# Altium schematic symbol library Resistor.SchLib: 285 symbols (part 1 of 3)
Pins are listed as number, name and electrical type; pins without a type are passive.

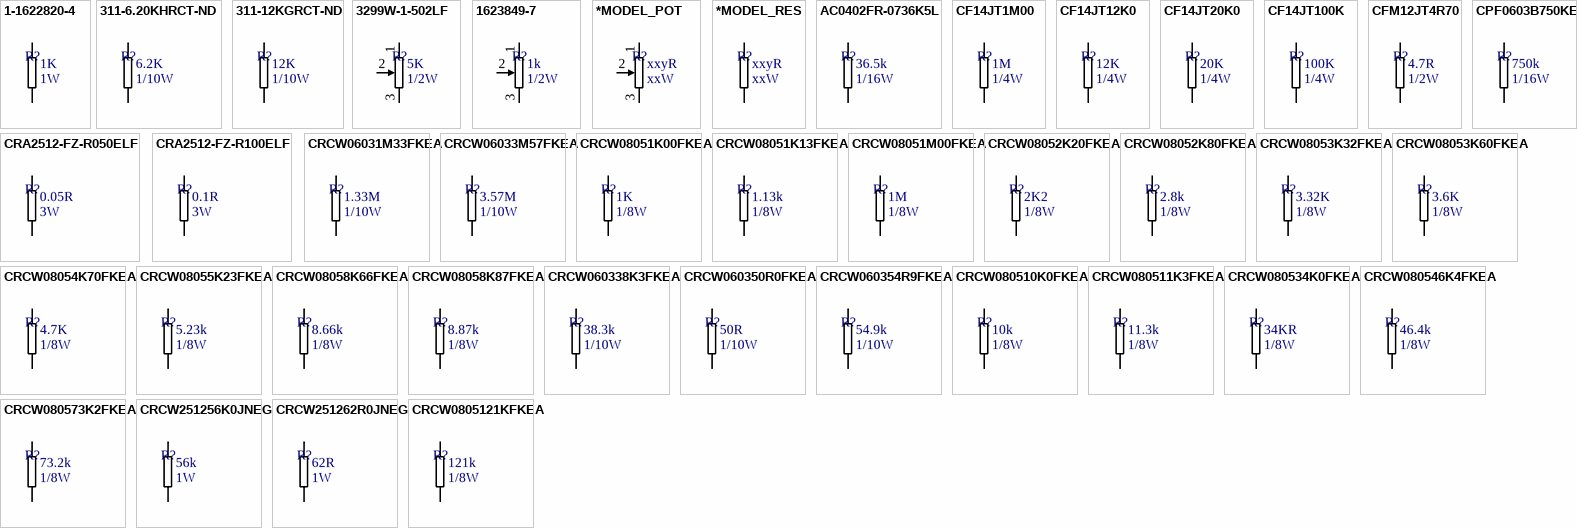
[diagram p0: symbols 1-1622820-4 to CRCW0805121KFKEA]

## 1-1622820-4
designator R?  value 1K  Power: 1W  (hidden comment: 1-1622820-4)
RES 1K OHM 1W 5% 2512 SMD; Manufacturer: Rohm Semiconductor; Mount Type: SMD; Tolerance: 5%; Supplier 1: Digi-Key; Supplier Part Number 1: A102507CT-ND
footprint R2512_MD
pins: 1, 2

## 311-6.20KHRCT-ND
designator R?  value 6.2K  Power: 1/10W  (hidden comment: 311-6.20KHRCT-ND)
RES SMD 6.2K OHM 1% 1/10W 0603; Manufacturer: Yageo; Mount Type: SMD; Tolerance: 1%; Supplier 1: Mouser; Supplier Part Number 1: 603-RC0603FR-076K2L; Supplier 2: Digi-Key; Supplier Part Number 2: 311-6.20KHRCT-ND
footprint R0603_HD (Chip Resistor, Body 1.6x0.8mm, IPC High Density)
pins: 1, 2

## 311-12KGRCT-ND
designator R?  value 12K  Power: 1/10W  (hidden comment: 311-12KGRCT-ND)
RES SMD 12K OHM 5% 1/10W 0603; Manufacturer: Yageo; Tolerance: 1%; Mount Type: SMD; Supplier 1: Farnell; Supplier Part Number 1: 1799387; Supplier 2: Digi-Key; Supplier 3: Newark; Supplier Part Number 2: 311-12KGRCT-ND; Supplier Part Number 3: 68R0149
footprint R0603_HD (Chip Resistor, Body 1.6x0.8mm, IPC High Density)
pins: 1, 2

## 3299W-1-502LF
designator R?  value 5K  Power: 1/2W  (hidden comment: 3299W-1-502LF)
TRIMMER 5K OHM 0.5W PTH; Manufacturer: Bourns Inc.; Tolerance: 10%; Mount Type: PTH; Supplier 1: Farnell; Supplier 2: Arrow; Supplier 3: Newark; Supplier 4: Allied; Supplier 5: Digi-Key; Supplier 6: Mouser; Supplier Part Number 1: 9353801; Supplier Part Number 2: 41630185S7049765N1506; Supplier Part Number 3: 32K7947; Supplier Part Number 4: 70153969; Supplier Part Number 5: 3299W-502LF-ND; Supplier Part Number 6: 652-3299W-1-502
footprint TRIMPOT MULT VERT
pins: 1, 2, 3

## 1623849-7
designator R?  value 1k  Power: 1/2W  (hidden comment: 1623849-7)
TRIMMER 1K OHM 0.5W TH; Manufacturer: TE Connectivity Passive Product; Tolerance: 10%; Mount Type: PTH; Supplier 1: Digi-Key; Supplier Part Number 1: A105771-ND; Supplier 2: Newark; Supplier Part Number 2: 18R7235
footprint TRIMPOT MULT VERT
pins: 1, 2, 3

## *MODEL_POT
designator R?, comment value xxyR  Power: xxW  (hidden comment: Part Number)
Description; Tolerance: xx%; Mount Type: *; Manufacturer: *
pins: 1, 2, 3

## *MODEL_RES
designator R?, comment value xxyR  Power: xxW  (hidden comment: Part Number)
Description; Tolerance: xx%; Mount Type: *; Manufacturer: *
pins: 1, 2

## AC0402FR-0736K5L
designator R?  value 36.5k  Power: 1/16W  (hidden comment: AC0402FR-0736K5L)
RES SMD 36.5K OHM 1% 1/16W 0402; Manufacturer: Yageo; Mount Type: SMD; Tolerance: 1%
footprint R0402_MD (Chip Resistor Body 1.0x0.5mm, IPC Medium Density)
pins: 1, 2

## CF14JT1M00
designator R?  value 1M  Power: 1/4W  (hidden comment: CF14JT1M00)
RES 1M OHM 1/4W 5% CARBON FILM; Manufacturer: Stackpole Electronics Inc.; Mount Type: PTH; Tolerance: 5%; Supplier 1: Digi-Key; Supplier Part Number 1: CF14JT1M00CT-ND
footprint RES_AXIAL_0.4
pins: 1, 2

## CF14JT12K0
designator R?  value 12K  Power: 1/4W  (hidden comment: CF14JT12K0)
RES 12K OHM 1/4W 5% CARBON FILM; Manufacturer: Stackpole Electronics Inc.; Mount Type: PTH; Tolerance: 5%; Supplier 1: Digi-Key; Supplier Part Number 1: CF14JT12K0CT-ND
footprint RES_AXIAL_0.4
pins: 1, 2

## CF14JT20K0
designator R?  value 20K  Power: 1/4W  (hidden comment: CF14JT20K0)
RES 20K OHM 1/4W 5% CARBON FILM; Manufacturer: Stackpole Electronics Inc.; Mount Type: PTH; Tolerance: 5%; Supplier 1: Digi-Key; Supplier Part Number 1: CF14JT20K0CT-ND
footprint RES_AXIAL_0.4
pins: 1, 2

## CF14JT100K
designator R?  value 100K  Power: 1/4W  (hidden comment: CF14JT100K)
RES 100K OHM 1/4W 5% CARBON FILM; Manufacturer: Stackpole Electronics Inc.; Mount Type: PTH; Tolerance: 5%; Supplier 1: Digi-Key; Supplier Part Number 1: CF14JT100KCT-ND
footprint RES_AXIAL_0.4
pins: 1, 2

## CFM12JT4R70
designator R?  value 4.7R  Power: 1/2W  (hidden comment: CFM12JT4R70)
RES 4.7 OHM 1/2W 5% CF MINI; Manufacturer: Stackpole Electronics Inc.; Mount Type: PTH; Tolerance: 5%; Supplier 1: Digi-Key; Supplier Part Number 1: S4.7HCT-ND
footprint RES_AXIAL_0.4
pins: 1, 2

## CPF0603B750KE
designator R?  value 750k  Power: 1/16W  (hidden comment: CPF0603B750KE)
RES SMD 750K OHM 0.1% 1/16W 0603; Manufacturer: TE Connectivity Passive Product; Mount Type: SMD; Tolerance: 0.1%; Supplier 1: Digi-Key; Supplier Part Number 1: A102315CT-ND
footprint R0603_MD (Chip Resistor, Body 1.6x0.8mm, IPC Medium Density)
pins: 1, 2

## CRA2512-FZ-R050ELF
designator R?  value 0.05R  Power: 3W  (hidden comment: CRA2512-FZ-R050ELF)
RES SMD 0.05 OHM 1% 3W 2512; Manufacturer: Bourns Inc.; Mount Type: SMD; Tolerance: 1%; Supplier 1: Arrow; Supplier Part Number 1: 1QV8IENUoueP8K4uRUHPBUnorWqm-4gMHjDhRvvurObjRM-Xpb9FWQC1nzZCAqtM; Supplier 2: Digi-Key; Supplier Part Number 2: CRA2512-FZ-R050ELFCT-ND; Supplier 3: Newark; Supplier Part Number 3: 14P5524
footprint R2512_MD
pins: 1, 2

## CRA2512-FZ-R100ELF
designator R?  value 0.1R  Power: 3W  (hidden comment: CRA2512-FZ-R100ELF)
RES SMD 0.1 OHM 1% 3W 2512; Manufacturer: Bourns Inc.; Mount Type: SMD; Tolerance: 1%; Supplier 1: Newark; Supplier Part Number 1: 14P5534; Supplier 2: Arrow; Supplier Part Number 2: 1QV8IENUoueP8K4uRUHPBU-Px8d3bFNOElKhHkltt9PjRM-Xpb9FWQC1nzZCAqtM; Supplier 3: Digi-Key; Supplier Part Number 3: CRA2512-FZ-R100ELFCT-ND
footprint R2512_MD
pins: 1, 2

## CRCW06031M33FKEA
designator R?  value 1.33M  Power: 1/10W  (hidden comment: CRCW06031M33FKEA)
RES SMD 1.33M OHM 1% 1/10W 0603; Manufacturer: Vishay Dale; Mount Type: SMD; Tolerance: 1%; Supplier 1: Farnell; Supplier Part Number 1: 2122760; Supplier 2: Digi-Key; Supplier Part Number 2: 541-1.33MHCT-ND
footprint R0603_MD (Chip Resistor, Body 1.6x0.8mm, IPC Medium Density)
pins: 1, 2

## CRCW06033M57FKEA
designator R?  value 3.57M  Power: 1/10W  (hidden comment: CRCW06033M57FKEA)
RES 3.57M OHM 1/10W 1% 0603 SMD; Manufacturer: Vishay Dale; Mount Type: SMD; Tolerance: 1%; Supplier 1: Mouser; Supplier Part Number 1: 71-CRCW0603-3.57M-E3; Supplier 2: Newark; Supplier Part Number 2: 47P3556; Supplier 3: Digi-Key; Supplier Part Number 3: 541-3.57MHCT-ND; Supplier 4: Farnell; Supplier Part Number 4: 2316366
footprint R0603_MD (Chip Resistor, Body 1.6x0.8mm, IPC Medium Density)
pins: 1, 2

## CRCW08051K00FKEA
designator R?  value 1K  Power: 1/8W  (hidden comment: CRCW08051K00FKEA)
RES 1.00K OHM 1/8W 1% 0805 SMD; Manufacturer: Vishay Dale; Mount Type: SMD; Tolerance: 1%; Supplier 1: Mouser; Supplier 2: Allied; Supplier 3: Arrow; Supplier 4: Digi-Key; Supplier 5: Farnell; Supplier 6: Newark; Supplier Part Number 1: 71-CRCW0805-1.0K-E3; Supplier Part Number 2: 70203853; Supplier Part Number 3: 41407656S7054765N6892; Supplier Part Number 4: 541-1.00KCCT-ND; Supplier Part Number 5: 1631371; Supplier Part Number 6: 01N6988
footprint R0805_MD (Chip Resistor, Body 2.0x1.3mm, IPC Medium Density)
footprint R0805_HD (Chip Resistor, Body 2.0x1.3mm, IPC High Density)
pins: 1, 2

## CRCW08051K13FKEA
designator R?  value 1.13k  Power: 1/8W  (hidden comment: CRCW08051K13FKEA)
RES 1.13K OHM 1/8W 1% 0805 SMD; Manufacturer: Vishay Dale; Mount Type: SMD; Tolerance: 1%; Supplier 1: Newark; Supplier 2: Farnell; Supplier 3: Mouser; Supplier 4: Digi-Key; Supplier 5: Allied; Supplier Part Number 1: 52K9731; Supplier Part Number 2: 1252517; Supplier Part Number 3: 71-CRCW0805-1.13K-E3; Supplier Part Number 4: 541-1.13KCCT-ND; Supplier Part Number 5: 70203856
footprint R0805_MD (Chip Resistor, Body 2.0x1.3mm, IPC Medium Density)
pins: 1, 2

## CRCW08051M00FKEA
designator R?  value 1M  Power: 1/8W  (hidden comment: CRCW08051M00FKEA)
RES 1.00M OHM 1/8W 1% 0805 SMD; Manufacturer: Vishay Dale; Mount Type: SMD; Tolerance: 1%; Supplier 1: Allied; Supplier 2: Digi-Key; Supplier 3: Newark; Supplier 4: Farnell; Supplier 5: Mouser; Supplier Part Number 1: 70201206; Supplier Part Number 2: 541-1.00MCCT-ND; Supplier Part Number 3: 52K9759; Supplier Part Number 4: 1127644; Supplier Part Number 5: 71-CRCW0805-1.0M-E3
footprint R0805_MD (Chip Resistor, Body 2.0x1.3mm, IPC Medium Density)
pins: 1, 2

## CRCW08052K20FKEA
designator R?  value 2K2  Power: 1/8W  (hidden comment: CRCW08052K20FKEA)
RES 2.20K OHM 1/8W 1% 0805 SMD; Manufacturer: Vishay-Dale; Mount Type: SMD; Tolerance: 1%
footprint R0805_MD (Chip Resistor, Body 2.0x1.3mm, IPC Medium Density)
footprint R0805_HD (Chip Resistor, Body 2.0x1.3mm, IPC High Density)
pins: 1, 2

## CRCW08052K80FKEA
designator R?  value 2.8k  Power: 1/8W  (hidden comment: CRCW08052K80FKEA)
RES 2.80K OHM 1/8W 1% 0805 SMD; Manufacturer: Vishay Dale; Mount Type: SMD; Tolerance: 1%; Supplier 1: Farnell; Supplier 2: Digi-Key; Supplier 3: Allied; Supplier 4: Mouser; Supplier 5: Newark; Supplier Part Number 1: 2283319; Supplier Part Number 2: 541-2.80KCCT-ND; Supplier Part Number 3: 70203905; Supplier Part Number 4: 71-CRCW0805-2.8K-E3; Supplier Part Number 5: 52K9966
footprint R0805_MD (Chip Resistor, Body 2.0x1.3mm, IPC Medium Density)
pins: 1, 2

## CRCW08053K32FKEA
designator R?  value 3.32K  Power: 1/8W  (hidden comment: CRCW08053K32FKEA)
RES 3.32K OHM 1/8W 1% 0805 SMD; Manufacturer: Vishay-Dale; Mount Type: SMD; Tolerance: 1%; Supplier 1: Arrow; Supplier 2: Digi-Key; Supplier 3: Mouser; Supplier 4: Newark; Supplier 5: Farnell; Supplier Part Number 1: 41410700S7558363N6892; Supplier Part Number 2: 541-3.32KCCT-ND; Supplier Part Number 3: 71-CRCW0805-3.32K-E3; Supplier Part Number 4: 53K0099; Supplier Part Number 5: 1469912
footprint R0805_HD (Chip Resistor, Body 2.0x1.3mm, IPC High Density)
footprint R0805_MD (Chip Resistor, Body 2.0x1.3mm, IPC Medium Density)
pins: 1, 2

## CRCW08053K60FKEA
designator R?  value 3.6K  Power: 1/8W  (hidden comment: CRCW08053K60FKEA)
RES 3.60K OHM 1/8W 1% 0805 SMD; Manufacturer: Vishay-Dale; Mount Type: SMD; Tolerance: 1%; Supplier 1: Allied; Supplier 2: Farnell; Supplier 3: Newark; Supplier 4: Mouser; Supplier 5: Digi-Key; Supplier 6: Arrow; Supplier Part Number 1: 70203921; Supplier Part Number 2: 1252578; Supplier Part Number 3: 53K0104; Supplier Part Number 4: 71-CRCW08053K60FKEA; Supplier Part Number 5: 541-3.60KCCT-ND; Supplier Part Number 6: 41410869S7116743N6892
footprint R0805_HD (Chip Resistor, Body 2.0x1.3mm, IPC High Density)
footprint R0805_MD (Chip Resistor, Body 2.0x1.3mm, IPC Medium Density)
pins: 1, 2

## CRCW08054K70FKEA
designator R?  value 4.7K  Power: 1/8W  (hidden comment: CRCW08054K70FKEA)
RES 4.70K OHM 1/8W 1% 0805 SMD; Manufacturer: Vishay Dale; Mount Type: SMD; Tolerance: 1%; Supplier 1: Allied; Supplier 2: Newark; Supplier 3: Farnell; Supplier 4: Digi-Key; Supplier 5: Mouser; Supplier Part Number 1: 70203938; Supplier Part Number 2: 53K0215; Supplier Part Number 3: 1469923; Supplier Part Number 4: 541-4.70KCCT-ND; Supplier Part Number 5: 71-CRCW0805-4.7K-E3
footprint R0805_HD (Chip Resistor, Body 2.0x1.3mm, IPC High Density)
footprint R0805_MD (Chip Resistor, Body 2.0x1.3mm, IPC Medium Density)
pins: 1, 2

## CRCW08055K23FKEA
designator R?  value 5.23k  Power: 1/8W  (hidden comment: CRCW08055K23FKEA)
RES 5.23K OHM 1/8W 1% 0805 SMD; Manufacturer: Vishay Dale; Mount Type: SMD; Tolerance: 1%; Supplier 1: Farnell; Supplier 2: Mouser; Supplier 3: Newark; Supplier 4: Digi-Key; Supplier 5: Allied; Supplier Part Number 1: 1246895; Supplier Part Number 2: 71-CRCW0805-5.23K-E3; Supplier Part Number 3: 53K0302; Supplier Part Number 4: 541-5.23KCCT-ND; Supplier Part Number 5: 70203947
footprint R0805_MD (Chip Resistor, Body 2.0x1.3mm, IPC Medium Density)
pins: 1, 2

## CRCW08058K66FKEA
designator R?  value 8.66k  Power: 1/8W  (hidden comment: CRCW08058K66FKEA)
RES 8.66K OHM 1/8W 1% 0805 SMD; Manufacturer: Vishay Dale; Mount Type: SMD; Tolerance: 1%; Supplier 1: Mouser; Supplier 2: Newark; Supplier 3: Digi-Key; Supplier 4: Farnell; Supplier 5: Allied; Supplier Part Number 1: 71-CRCW0805-8.66K-E3; Supplier Part Number 2: 53K0482; Supplier Part Number 3: 541-8.66KCCT-ND; Supplier Part Number 4: 1610017; Supplier Part Number 5: 70203980
footprint R0805_MD (Chip Resistor, Body 2.0x1.3mm, IPC Medium Density)
pins: 1, 2

## CRCW08058K87FKEA
designator R?  value 8.87k  Power: 1/8W  (hidden comment: CRCW08058K87FKEA)
RES 8.87K OHM 1/8W 1% 0805 SMD; Manufacturer: Vishay Dale; Mount Type: SMD; Tolerance: 1%; Supplier 1: Farnell; Supplier 2: Newark; Supplier 3: Mouser; Supplier 4: Digi-Key; Supplier 5: Allied; Supplier Part Number 1: 2283455; Supplier Part Number 2: 53K0483; Supplier Part Number 3: 71-CRCW0805-8.87K-E3; Supplier Part Number 4: 541-8.87KCCT-ND; Supplier Part Number 5: 70203981
footprint R0805_MD (Chip Resistor, Body 2.0x1.3mm, IPC Medium Density)
pins: 1, 2

## CRCW060338K3FKEA
designator R?  value 38.3k  Power: 1/10W  (hidden comment: CRCW060338K3FKEA)
RES 38.3K OHM 1/10W 1% 0603 SMD; Manufacturer: Vishay Dale; Mount Type: SMD; Tolerance: 1%; Supplier 1: Farnell; Supplier 2: Digi-Key; Supplier 3: Allied; Supplier 4: Newark; Supplier 5: Mouser; Supplier Part Number 1: 1151972; Supplier Part Number 2: 541-38.3KHCT-ND; Supplier Part Number 3: 70203442; Supplier Part Number 4: 52K8469; Supplier Part Number 5: 71-CRCW0603-38.3K-E3
footprint R0603_MD (Chip Resistor, Body 1.6x0.8mm, IPC Medium Density)
pins: 1, 2

## CRCW060350R0FKEA
designator R?  value 50R  Power: 1/10W  (hidden comment: CRCW060350R0FKEA)
RES SMD 50 OHM 1% 1/10W 0603; Manufacturer: Vishay Dale; Mount Type: SMD; Tolerance: 1%; Supplier 1: Digi-Key; Supplier Part Number 1: 541-3318-1-ND
footprint R0603_HD (Chip Resistor, Body 1.6x0.8mm, IPC High Density)
pins: 1, 2

## CRCW060354R9FKEA
designator R?  value 54.9k  Power: 1/10W  (hidden comment: CRCW060354R9FKEA)
RES 54.9 OHM 1/10W 1% 0603 SMD; Manufacturer: Vishay Dale; Mount Type: SMD; Tolerance: 1%; Supplier 1: Digi-Key; Supplier 2: Farnell; Supplier 3: Newark; Supplier 4: Mouser; Supplier Part Number 1: 541-54.9HCT-ND; Supplier Part Number 2: 2059278; Supplier Part Number 3: 52K8611; Supplier Part Number 4: 71-CRCW0603-54.9-E3
footprint R0603_MD (Chip Resistor, Body 1.6x0.8mm, IPC Medium Density)
pins: 1, 2

## CRCW080510K0FKEA
designator R?  value 10k  Power: 1/8W  (hidden comment: CRCW080510K0FKEA)
RES 10.0K OHM 1/8W 1% 0805 SMD; Manufacturer: Vishay Dale; Mount Type: SMD; Tolerance: 1%; Supplier 1: Newark; Supplier 2: Mouser; Supplier 3: Digi-Key; Supplier 4: Allied; Supplier 5: Farnell; Supplier Part Number 1: 52K9795; Supplier Part Number 2: 71-CRCW0805-10K-E3; Supplier Part Number 3: 541-10.0KCCT-ND; Supplier Part Number 4: 70201192; Supplier Part Number 5: 1632457
footprint R0805_MD (Chip Resistor, Body 2.0x1.3mm, IPC Medium Density)
pins: 1, 2

## CRCW080511K3FKEA
designator R?  value 11.3k  Power: 1/8W  (hidden comment: CRCW080511K3FKEA)
RES 11.3K OHM 1/8W 1% 0805 SMD; Manufacturer: Vishay Dale; Mount Type: SMD; Tolerance: 1%; Supplier 1: Newark; Supplier 2: Digi-Key; Supplier 3: Allied; Supplier 4: Farnell; Supplier 5: Mouser; Supplier Part Number 1: 52K9819; Supplier Part Number 2: 541-11.3KCCT-ND; Supplier Part Number 3: 70203994; Supplier Part Number 4: 1652911; Supplier Part Number 5: 71-CRCW0805-11.3K-E3
footprint R0805_MD (Chip Resistor, Body 2.0x1.3mm, IPC Medium Density)
pins: 1, 2

## CRCW080534K0FKEA
designator R?  value 34KR  Power: 1/8W  (hidden comment: CRCW080534K0FKEA)
RES SMD 34K OHM 1% 1/8W 0805; Manufacturer: Vishay Dale; Mount Type: SMD; Tolerance: 1%; Supplier 1: Arrow; Supplier Part Number 1: jwpbiTwFajJnPWr7ue9w1VHgdX1L5OF1mlEYhWp1A-E; Supplier 2: Newark; Supplier Part Number 2: 53K0167; Supplier 3: Digi-Key; Supplier Part Number 3: 541-34.0KCCT-ND
footprint C0805_MD (Chip Capacitor, Body 2.0x1.3mm, IPC Medium Density)
pins: 1, 2

## CRCW080546K4FKEA
designator R?  value 46.4k  Power: 1/8W  (hidden comment: CRCW080546K4FKEA)
RES 46.4K OHM 1/8W 1% 0805 SMD; Manufacturer: Vishay Dale; Mount Type: SMD; Tolerance: 1%; Supplier 1: Farnell; Supplier 2: Mouser; Supplier 3: Digi-Key; Supplier 4: Newark; Supplier 5: Allied; Supplier Part Number 1: 1653005; Supplier Part Number 2: 71-CRCW0805-46.4K-E3; Supplier Part Number 3: 541-46.4KCCT-ND; Supplier Part Number 4: 53K0273; Supplier Part Number 5: 70204086
footprint R0805_MD (Chip Resistor, Body 2.0x1.3mm, IPC Medium Density)
pins: 1, 2

## CRCW080573K2FKEA
designator R?  value 73.2k  Power: 1/8W  (hidden comment: CRCW080573K2FKEA)
RES 73.2K OHM 1/8W 1% 0805 SMD; Manufacturer: Vishay Dale; Mount Type: SMD; Tolerance: 1%; Supplier 1: Farnell; Supplier 2: Digi-Key; Supplier 3: Newark; Supplier 4: Mouser; Supplier Part Number 1: 2283436; Supplier Part Number 2: 541-73.2KCCT-ND; Supplier Part Number 3: 53K0462; Supplier Part Number 4: 71-CRCW080573K2FKEA
footprint R0805_MD (Chip Resistor, Body 2.0x1.3mm, IPC Medium Density)
pins: 1, 2

## CRCW251256K0JNEG
designator R?  value 56k  Power: 1W  (hidden comment: CRCW251256K0JNEG)
RES SMD 56K OHM 5% 1W 2512; Manufacturer: Vishay Dale; Mount Type: SMD; Tolerance: 5%; Supplier 1: Mouser; Supplier 2: Digi-Key; Supplier Part Number 1: 71-CRCW2512J-56K-E3; Supplier Part Number 2: 541-56KXCT-ND
footprint R2512_MD
pins: 1, 2

## CRCW251262R0JNEG
designator R?  value 62R  Power: 1W  (hidden comment: CRCW251262R0JNEG)
RES SMD 62 OHM 5% 1W 2512; Manufacturer: Vishay Dale; Mount Type: SMD; Tolerance: 5%; Supplier 1: Mouser; Supplier 2: Newark; Supplier 3: Digi-Key; Supplier Part Number 1: 71-CRCW251262R0JNEG; Supplier Part Number 2: 53K3982; Supplier Part Number 3: 541-62XCT-ND
footprint R2512_MD
pins: 1, 2

## CRCW0805121KFKEA
designator R?  value 121k  Power: 1/8W  (hidden comment: CRCW0805121KFKEA)
RES 121K OHM 1/8W 1% 0805 SMD; Manufacturer: Vishay Dale; Mount Type: SMD; Tolerance: 1%; Supplier 1: Newark; Supplier 2: Farnell; Supplier 3: Digi-Key; Supplier 4: Mouser; Supplier 5: Allied; Supplier Part Number 1: 27W4461; Supplier Part Number 2: 2283231; Supplier Part Number 3: 541-121KCCT-ND; Supplier Part Number 4: 71-CRCW0805121KFKEB; Supplier Part Number 5: 70202009
footprint R0805_MD (Chip Resistor, Body 2.0x1.3mm, IPC Medium Density)
pins: 1, 2

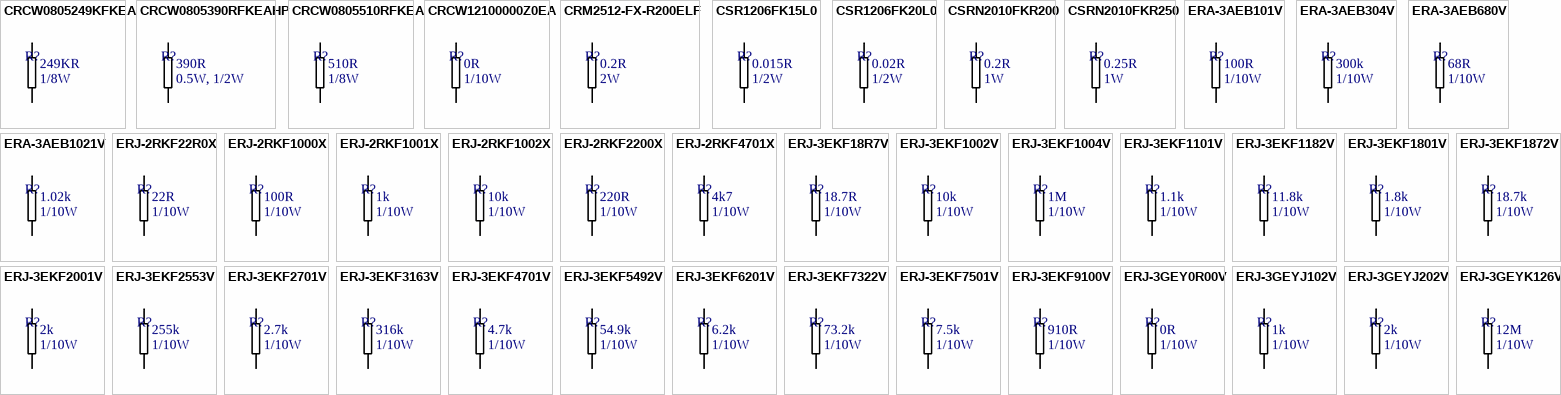
[diagram p1: symbols CRCW0805249KFKEA to ERJ-3GEYK126V]

## CRCW0805249KFKEA
designator R?  value 249KR  Power: 1/8W  (hidden comment: CRCW0805249KFKEA)
RES SMD 249K OHM 1% 1/8W 0805; Manufacturer: Vishay Dale; Mount Type: SMD; Tolerance: 1%; Supplier 1: Arrow; Supplier Part Number 1: 5VvND1i2qBMs3WlhN-WfgiboDVg_9Ey6ZJUIGsK7At4; Supplier 2: Newark; Supplier Part Number 2: 53K0051; Supplier 3: Digi-Key; Supplier Part Number 3: 541-249KCCT-ND
footprint C0805_HD (Chip Capacitor, Body 2.0x1.3mm, IPC High Density)
pins: 1, 2

## CRCW0805390RFKEAHP
designator R?  value 390R  Power: 0.5W, 1/2W  (hidden comment: CRCW0805390RFKEAHP)
RES SMD 390 OHM 1% 1/2W 0805; Manufacturer: Vishay Dale; Mount Type: SMD; Tolerance: 1%; Supplier 1: Digi-Key; Supplier Part Number 1: 541-390TDKR-ND; Supplier 2: Digi-Key; Supplier Part Number 2: 541-390TCT-ND; Supplier 3: Mouser; Supplier Part Number 3: Anonymous Daily Limit Reached
footprint R0805_MD (Chip Resistor, Body 2.0x1.3mm, IPC Medium Density)
pins: 1, 2

## CRCW0805510RFKEA
designator R?  value 510R  Power: 1/8W  (hidden comment: CRCW0805510RFKEA)
RES SMD 510 OHM 1% 1/8W 0805; Manufacturer: Vishay Dale; Mount Type: SMD; Tolerance: 1%; Supplier 1: Digi-Key; Supplier 2: Newark; Supplier 3: Mouser; Supplier Part Number 1: 541-510CCT-ND; Supplier Part Number 2: 07J5202; Supplier Part Number 3: 71-CRCW0805510RFKEA
footprint R0805_HD (Chip Resistor, Body 2.0x1.3mm, IPC High Density)
pins: 1, 2

## CRCW12100000Z0EA
designator R?  value 0R  Power: 1/10W  (hidden comment: CRCW12100000Z0EA)
RES SMD 0.0 OHM JUMPER 1/2W 1210; Manufacturer: Panasonic Electronic Components; Tolerance: 1%; Mount Type: SMD; Supplier 1: Digi-Key; Supplier Part Number 1: 541-0.0VCT-ND
footprint R1210_MD (Chip Resistor, Body 3.2x2.5mm, IPC Medium Density)
pins: 1, 2

## CRM2512-FX-R200ELF
designator R?  value 0.2R  Power: 2W  (hidden comment: CRM2512-FX-R200ELF)
RES SMD 0.2 OHM 1% 2W 2512; Manufacturer: Bourns Inc.; Mount Type: SMD; Tolerance: 1%; Supplier 1: Digi-Key; Supplier Part Number 1: CRM2512-FX-R200ELFCT-ND; Supplier 2: Farnell; Supplier Part Number 2: 1254665; Supplier 3: Newark; Supplier Part Number 3: 68Y8722
footprint R2512_MD
pins: 1, 2

## CSR1206FK15L0
designator R?  value 0.015R  Power: 1/2W  (hidden comment: CSR1206FK15L0)
RES 0.015 OHM 1/2W 1% 1206; Manufacturer: Stackpole Electronics Inc; Mount Type: SMD; Tolerance: 1%; Supplier 1: Digi-Key; Supplier Part Number 1: CSR1206FK15L0CT-ND
footprint R1206_MD (Chip Resistor, Body 3.2x1.6mm, IPC Medium Density)
pins: 1, 2

## CSR1206FK20L0
designator R?  value 0.02R  Power: 1/2W  (hidden comment: CSR1206FK20L0)
RES 0.02 OHM 1/2W 1% 1206; Manufacturer: Stackpole Electronics Inc; Mount Type: SMD; Tolerance: 1%; Supplier 1: Mouser; Supplier 2: Digi-Key; Supplier Part Number 1: N/A; Supplier Part Number 2: CSR1206FK20L0CT-ND
footprint R1206_MD (Chip Resistor, Body 3.2x1.6mm, IPC Medium Density)
pins: 1, 2

## CSRN2010FKR200
designator R?  value 0.2R  Power: 1W  (hidden comment: CSRN2010FKR200)
RES SMD 0.2 OHM 1% 1W 2010; Manufacturer: Stackpole Electronics Inc.; Mount Type: SMD; Tolerance: 1%; Supplier 1: Digi-Key; Supplier Part Number 1: CSRN2010FKR200CT-ND
footprint R2010_MD (Chip Resistor, Body 5x2.5mm, IPC Medium Density)
pins: 1, 2

## CSRN2010FKR250
designator R?  value 0.25R  Power: 1W  (hidden comment: CSRN2010FKR250)
RES 0.25 OHM 1W 1% 2010; Manufacturer: Stackpole Electronics Inc; Mount Type: SMD; Tolerance: 1%; Supplier 1: Digi-Key; Supplier Part Number 1: CSRN2010FKR250CT-ND
footprint R2010_MD (Chip Resistor, Body 5x2.5mm, IPC Medium Density)
pins: 1, 2

## ERA-3AEB101V
designator R?  value 100R  Power: 1/10W  (hidden comment: ERA-3AEB101V)
RES SMD 100 OHM 0.1% 1/10W 0603; Manufacturer: Panasonic Electronic Components; Mount Type: SMD; Tolerance: 0.1%; Supplier 1: Digi-Key; Supplier Part Number 1: P100DBCT-ND; Supplier 2: Newark; Supplier Part Number 2: 08N2093
footprint R0603_MD (Chip Resistor, Body 1.6x0.8mm, IPC Medium Density)
pins: 1, 2

## ERA-3AEB304V
designator R?  value 300k  Power: 1/10W  (hidden comment: ERA-3AEB304V)
RES SMD 300K OHM 0.1% 1/10W 0603; Manufacturer: Panasonic Electronic Components; Mount Type: SMD; Tolerance: 0.1%; Supplier 1: Newark; Supplier Part Number 1: 39P9972; Supplier 2: Digi-Key; Supplier Part Number 2: P300KDBCT-ND
footprint R0603_MD (Chip Resistor, Body 1.6x0.8mm, IPC Medium Density)
pins: 1, 2

## ERA-3AEB680V
designator R?  value 68R  Power: 1/10W  (hidden comment: ERA-3AEB680V)
RES SMD 68 OHM 0.1% 1/10W 0603; Manufacturer: Panasonic Electronic Components; Mount Type: SMD; Tolerance: 0.1%; Supplier 1: Newark; Supplier Part Number 1: 05X8542; Supplier 2: Digi-Key; Supplier Part Number 2: P68DBCT-ND
footprint R0603_MD (Chip Resistor, Body 1.6x0.8mm, IPC Medium Density)
pins: 1, 2

## ERA-3AEB1021V
designator R?  value 1.02k  Power: 1/10W  (hidden comment: ERA-3AEB1021V)
RES SMD 1.02KOHM 0.1% 1/10W 0603; Manufacturer: Panasonic Electronic Components; Mount Type: SMD; Tolerance: 0.1%; Supplier 1: Digi-Key; Supplier Part Number 1: P1.02KDBCT-ND; Supplier 2: Newark; Supplier Part Number 2: 55W9409
footprint R0603_MD (Chip Resistor, Body 1.6x0.8mm, IPC Medium Density)
pins: 1, 2

## ERJ-2RKF22R0X
designator R?  value 22R  Power: 1/10W  (hidden comment: ERJ-2RKF22R0X)
RES SMD 22 OHM 1% 1/10W 0402; Manufacturer: Panasonic Electronic Components; Mount Type: SMD; Tolerance: 1%
footprint R0402_MD (Chip Resistor Body 1.0x0.5mm, IPC Medium Density)
pins: 1, 2

## ERJ-2RKF1000X
designator R?  value 100R  Power: 1/10W  (hidden comment: ERJ-2RKF1000X)
RES SMD 100 OHM 1% 1/10W 0402; Manufacturer: Panasonic Electronic Components; Mount Type: SMD; Tolerance: 1%
footprint R0402_MD (Chip Resistor Body 1.0x0.5mm, IPC Medium Density)
pins: 1, 2

## ERJ-2RKF1001X
designator R?  value 1k  Power: 1/10W  (hidden comment: ERJ-2RKF1001X)
RES SMD 1K OHM 1% 1/10W 0402; Manufacturer: Panasonic Electronic Components; Mount Type: SMD; Tolerance: 1%
footprint R0402_MD (Chip Resistor Body 1.0x0.5mm, IPC Medium Density)
pins: 1, 2

## ERJ-2RKF1002X
designator R?  value 10k  Power: 1/10W  (hidden comment: ERJ-2RKF1002X)
RES SMD 10K OHM 1% 1/10W 0402; Manufacturer: Panasonic Electronic Components; Mount Type: SMD; Tolerance: 1%
footprint R0402_MD (Chip Resistor Body 1.0x0.5mm, IPC Medium Density)
pins: 1, 2

## ERJ-2RKF2200X
designator R?  value 220R  Power: 1/10W  (hidden comment: ERJ-2RKF2200X)
RES SMD 220 OHM 1% 1/10W 0402; Manufacturer: Panasonic Electronic Components; Mount Type: SMD; Tolerance: 1%
footprint R0402_MD (Chip Resistor Body 1.0x0.5mm, IPC Medium Density)
pins: 1, 2

## ERJ-2RKF4701X
designator R?  value 4k7  Power: 1/10W  (hidden comment: ERJ-2RKF4701X)
RES SMD 4.7K OHM 1% 1/10W 0402; Manufacturer: Panasonic Electronic Components; Mount Type: SMD; Tolerance: 1%
footprint R0402_MD (Chip Resistor Body 1.0x0.5mm, IPC Medium Density)
pins: 1, 2

## ERJ-3EKF18R7V
designator R?  value 18.7R  Power: 1/10W  (hidden comment: ERJ-3EKF18R7V)
RES 18.7 OHM 1/10W 1% 0603 SMD; Manufacturer: Panasonic Electronic Components; Mount Type: SMD; Tolerance: 1%; Supplier 1: Digi-Key; Supplier 2: Newark; Supplier 3: Mouser; Supplier 4: Farnell; Supplier Part Number 1: P18.7HCT-ND; Supplier Part Number 2: 90W3144; Supplier Part Number 3: 667-ERJ-3EKF18R7V; Supplier Part Number 4: 2302990RL
footprint R0603_MD (Chip Resistor, Body 1.6x0.8mm, IPC Medium Density)
pins: 1, 2

## ERJ-3EKF1002V
designator R?  value 10k  Power: 1/10W  (hidden comment: ERJ-3EKF1002V)
RES SMD 10K OHM 1% 1/10W 0603; Manufacturer: Panasonic Electronic Components; Mount Type: SMD; Tolerance: 1%; Supplier 1: Digi-Key; Supplier Part Number 1: P10.0KHCT-ND
footprint R0603_MD (Chip Resistor, Body 1.6x0.8mm, IPC Medium Density)
pins: 1, 2

## ERJ-3EKF1004V
designator R?  value 1M  Power: 1/10W  (hidden comment: ERJ-3EKF1004V)
RES 1M OHM 1/10W 1% 0603 SMD; Manufacturer: Panasonic Electronic Components; Mount Type: SMD; Tolerance: 1%; Supplier 1: Farnell; Supplier 2: Newark; Supplier 3: Mouser; Supplier 4: Digi-Key; Supplier Part Number 1: 2303325; Supplier Part Number 2: 64R5311; Supplier Part Number 3: 667-ERJ-3EKF1004V; Supplier Part Number 4: P1.00MHCT-ND
footprint R0603_MD (Chip Resistor, Body 1.6x0.8mm, IPC Medium Density)
pins: 1, 2

## ERJ-3EKF1101V
designator R?  value 1.1k  Power: 1/10W  (hidden comment: ERJ-3EKF1101V)
RES SMD 1.1K OHM 1% 1/10W 0603; Manufacturer: Panasonic Electronic Components; Mount Type: SMD; Tolerance: 1%; Supplier 1: Mouser; Supplier 2: Digi-Key; Supplier Part Number 1: 667-ERJ-3EKF1101V; Supplier Part Number 2: P1.10KHCT-ND
footprint R0603_MD (Chip Resistor, Body 1.6x0.8mm, IPC Medium Density)
pins: 1, 2

## ERJ-3EKF1182V
designator R?  value 11.8k  Power: 1/10W  (hidden comment: ERJ-3EKF1182V)
RES 11.8K OHM 1/10W 1% 0603 SMD; Manufacturer: Panasonic Electronic Components; Mount Type: SMD; Tolerance: 1%; Supplier 1: Mouser; Supplier 2: Digi-Key; Supplier 3: Newark; Supplier 4: Farnell; Supplier Part Number 1: 667-ERJ-3EKF1182V; Supplier Part Number 2: P11.8KHCT-ND; Supplier Part Number 3: 53W4517; Supplier Part Number 4: 2303194
footprint R0603_MD (Chip Resistor, Body 1.6x0.8mm, IPC Medium Density)
pins: 1, 2

## ERJ-3EKF1801V
designator R?  value 1.8k  Power: 1/10W  (hidden comment: ERJ-3EKF1801V)
RES 1.8K OHM 1/10W 1% 0603 SMD; Manufacturer: Panasonic Electronic Components; Mount Type: SMD; Tolerance: 1%; Supplier 1: Digi-Key; Supplier 2: Farnell; Supplier 3: Newark; Supplier 4: Mouser; Supplier Part Number 1: P1.80KHCT-ND; Supplier Part Number 2: 2303162RL; Supplier Part Number 3: 64R5324; Supplier Part Number 4: 667-ERJ-3EKF1801V
footprint R0603_MD (Chip Resistor, Body 1.6x0.8mm, IPC Medium Density)
pins: 1, 2

## ERJ-3EKF1872V
designator R?  value 18.7k  Power: 1/10W  (hidden comment: ERJ-3EKF1872V)
RES SMD 18.7K OHM 1% 1/10W 0603; Manufacturer: Panasonic Electronic Components; Mount Type: SMD; Tolerance: 1%; Supplier 1: Mouser; Supplier 2: Newark; Supplier 3: Farnell; Supplier 4: Digi-Key; Supplier Part Number 1: 667-ERJ-3EKF1872V; Supplier Part Number 2: 65T8360; Supplier Part Number 3: 2059429; Supplier Part Number 4: P18.7KHCT-ND
footprint R0603_MD (Chip Resistor, Body 1.6x0.8mm, IPC Medium Density)
pins: 1, 2

## ERJ-3EKF2001V
designator R?  value 2k  Power: 1/10W  (hidden comment: ERJ-3EKF2001V)
RES SMD 2K OHM 1% 1/10W 0603; Manufacturer: Panasonic Electronic Components; Mount Type: SMD; Tolerance: 1%; Supplier 1: Digi-Key; Supplier Part Number 1: P2.00KHCT-ND; Supplier 2: Newark; Supplier Part Number 2: 65T8366
footprint R0603_MD (Chip Resistor, Body 1.6x0.8mm, IPC Medium Density)
pins: 1, 2

## ERJ-3EKF2553V
designator R?  value 255k  Power: 1/10W  (hidden comment: ERJ-3EKF2553V)
RES SMD 255K OHM 1% 1/10W 0603; Manufacturer: Panasonic Electronic Components; Mount Type: SMD; Tolerance: 1%; Supplier 1: Newark; Supplier 2: Digi-Key; Supplier 3: Allied; Supplier Part Number 1: 53W4576; Supplier Part Number 2: P255KHCT-ND; Supplier Part Number 3: 70269435
footprint R0603_MD (Chip Resistor, Body 1.6x0.8mm, IPC Medium Density)
pins: 1, 2

## ERJ-3EKF2701V
designator R?  value 2.7k  Power: 1/10W  (hidden comment: ERJ-3EKF2701V)
RES SMD 2.7K OHM 1% 1/10W 0603; Manufacturer: Panasonic Electronic Components; Mount Type: SMD; Tolerance: 1%; Supplier 1: Newark; Supplier 2: Mouser; Supplier 3: Digi-Key; Supplier Part Number 1: 64R5334; Supplier Part Number 2: 667-ERJ-3EKF2701V; Supplier Part Number 3: P2.70KHCT-ND
footprint R0603_MD (Chip Resistor, Body 1.6x0.8mm, IPC Medium Density)
pins: 1, 2

## ERJ-3EKF3163V
designator R?  value 316k  Power: 1/10W  (hidden comment: ERJ-3EKF3163V)
RES 316K OHM 1/10W 1% 0603 SMD; Manufacturer: Panasonic Electronic Components; Mount Type: SMD; Tolerance: 1%; Supplier 1: Newark; Supplier 2: Mouser; Supplier 3: Digi-Key; Supplier 4: Farnell; Supplier Part Number 1: 53W4593; Supplier Part Number 2: 667-ERJ-3EKF3163V; Supplier Part Number 3: P316KHCT-ND; Supplier Part Number 4: 2303268
footprint R0603_MD (Chip Resistor, Body 1.6x0.8mm, IPC Medium Density)
pins: 1, 2

## ERJ-3EKF4701V
designator R?  value 4.7k  Power: 1/10W  (hidden comment: ERJ-3EKF4701V)
RES SMD 4.7K OHM 1% 1/10W 0603; Manufacturer: Panasonic Electronic Components; Mount Type: SMD; Tolerance: 1%; Supplier 1: Digi-Key; Supplier Part Number 1: P4.70KHCT-ND
footprint R0603_MD (Chip Resistor, Body 1.6x0.8mm, IPC Medium Density)
pins: 1, 2

## ERJ-3EKF5492V
designator R?  value 54.9k  Power: 1/10W  (hidden comment: ERJ-3EKF5492V)
RES 54.9K OHM 1/10W 1% 0603 SMD; Manufacturer: Panasonic Electronic Components; Mount Type: SMD; Tolerance: 1%; Supplier 1: Allied; Supplier 2: Digi-Key; Supplier 3: Mouser; Supplier 4: Farnell; Supplier 5: Newark; Supplier Part Number 1: 70265856; Supplier Part Number 2: P54.9KHCT-ND; Supplier Part Number 3: 667-ERJ-3EKF5492V; Supplier Part Number 4: 2059476; Supplier Part Number 5: 65T8488
footprint R0603_MD (Chip Resistor, Body 1.6x0.8mm, IPC Medium Density)
pins: 1, 2

## ERJ-3EKF6201V
designator R?  value 6.2k  Power: 1/10W  (hidden comment: ERJ-3EKF6201V)
RES 6.2K OHM 1/10W 1% 0603 SMD; Manufacturer: Panasonic Electronic Components; Mount Type: SMD; Tolerance: 1%; Supplier 1: Mouser; Supplier 2: Newark; Supplier 3: Digi-Key; Supplier 4: Farnell; Supplier 5: Allied; Supplier Part Number 1: 667-ERJ-3EKF6201V; Supplier Part Number 2: 53W4660; Supplier Part Number 3: P6.20KHCT-ND; Supplier Part Number 4: 2283164; Supplier Part Number 5: 70265874
footprint R0603_MD (Chip Resistor, Body 1.6x0.8mm, IPC Medium Density)
pins: 1, 2

## ERJ-3EKF7322V
designator R?  value 73.2k  Power: 1/10W  (hidden comment: ERJ-3EKF7322V)
RES 73.2K OHM 1/10W 1% 0603 SMD; Manufacturer: Panasonic Electronic Components; Mount Type: SMD; Tolerance: 1%; Supplier 1: Allied; Supplier 2: Newark; Supplier 3: Mouser; Supplier 4: Digi-Key; Supplier 5: Farnell; Supplier Part Number 1: 70265895; Supplier Part Number 2: 65T8517; Supplier Part Number 3: 667-ERJ-3EKF7322V; Supplier Part Number 4: P73.2KHCT-ND; Supplier Part Number 5: 2059485
footprint R0603_MD (Chip Resistor, Body 1.6x0.8mm, IPC Medium Density)
pins: 1, 2

## ERJ-3EKF7501V
designator R?  value 7.5k  Power: 1/10W  (hidden comment: ERJ-3EKF7501V)
RES SMD 7.5K OHM 1% 1/10W 0603; Manufacturer: Panasonic Electronic Components; Mount Type: SMD; Tolerance: 1%; Supplier 1: Newark; Supplier 2: Mouser; Supplier 3: Digi-Key; Supplier Part Number 1: 65T8520; Supplier Part Number 2: 667-ERJ-3EKF7501V; Supplier Part Number 3: P7.50KHCT-ND
footprint R0603_MD (Chip Resistor, Body 1.6x0.8mm, IPC Medium Density)
pins: 1, 2

## ERJ-3EKF9100V
designator R?  value 910R  Power: 1/10W  (hidden comment: ERJ-3EKF9100V)
RES 910 OHM 1/10W 1% 0603 SMD; Manufacturer: Panasonic Electronic Components; Mount Type: SMD; Tolerance: 1%; Supplier 1: Digi-Key; Supplier 2: Newark; Supplier 3: Farnell; Supplier 4: Mouser; Supplier Part Number 1: P910HCT-ND; Supplier Part Number 2: 53W4691; Supplier Part Number 3: 1811768; Supplier Part Number 4: 667-ERJ-3EKF9100V
footprint R0603_MD (Chip Resistor, Body 1.6x0.8mm, IPC Medium Density)
pins: 1, 2

## ERJ-3GEY0R00V
designator R?  value 0R  Power: 1/10W  (hidden comment: ERJ-3GEY0R00V)
RES 0.0 OHM 1/10W JUMP 0603 SMD; Manufacturer: Panasonic; Tolerance: 1%; Mount Type: SMD; Supplier 1: Farnell; Supplier 2: Digi-Key; Supplier 3: Allied; Supplier 4: Newark; Supplier 5: Mouser; Supplier Part Number 1: 1652716; Supplier Part Number 2: P0.0GCT-ND; Supplier Part Number 3: 70300175; Supplier Part Number 4: 65T8702; Supplier Part Number 5: 667-ERJ-3GEY0R00V
footprint R0603_MD (Chip Resistor, Body 1.6x0.8mm, IPC Medium Density)
pins: 1, 2

## ERJ-3GEYJ102V
designator R?  value 1k  Power: 1/10W  (hidden comment: ERJ-3GEYJ102V)
RES SMD 1K OHM 5% 1/10W 0603; Manufacturer: Panasonic Electronic Components; Mount Type: SMD; Tolerance: 5%; Supplier 1: Digi-Key; Supplier Part Number 1: P1.0KGCT-ND
footprint R0603_MD (Chip Resistor, Body 1.6x0.8mm, IPC Medium Density)
pins: 1, 2

## ERJ-3GEYJ202V
designator R?  value 2k  Power: 1/10W  (hidden comment: ERJ-3GEYJ202V)
RES SMD 2K OHM 5% 1/10W 0603; Manufacturer: Panasonic Electronic Components; Mount Type: SMD; Tolerance: 5%; Supplier 1: Digi-Key; Supplier Part Number 1: P2.0KGCT-ND; Supplier 2: Newark; Supplier Part Number 2: 97W7505; Supplier 3: Mouser; Supplier Part Number 3: 667-ERJ-3GEYJ202V; Supplier 4: Arrow; Supplier Part Number 4: ERJ-3GEYJ202V**MULT1; Supplier 5: Farnell; Supplier Part Number 5: 2059609
footprint R0603_MD (Chip Resistor, Body 1.6x0.8mm, IPC Medium Density)
pins: 1, 2

## ERJ-3GEYK126V
designator R?  value 12M  Power: 1/10W  (hidden comment: ERJ-3GEYK126V)
RES SMD 12M OHM 10% 1/10W 0603; Manufacturer: Panasonic Electronic Components; Mount Type: SMD; Tolerance: 10%; Supplier 1: Digi-Key; Supplier Part Number 1: P12MGCT-ND; Supplier 2: Avnet; Supplier Part Number 2: ERJ-3GEYK126V/BKN
footprint R0603_MD (Chip Resistor, Body 1.6x0.8mm, IPC Medium Density)
pins: 1, 2

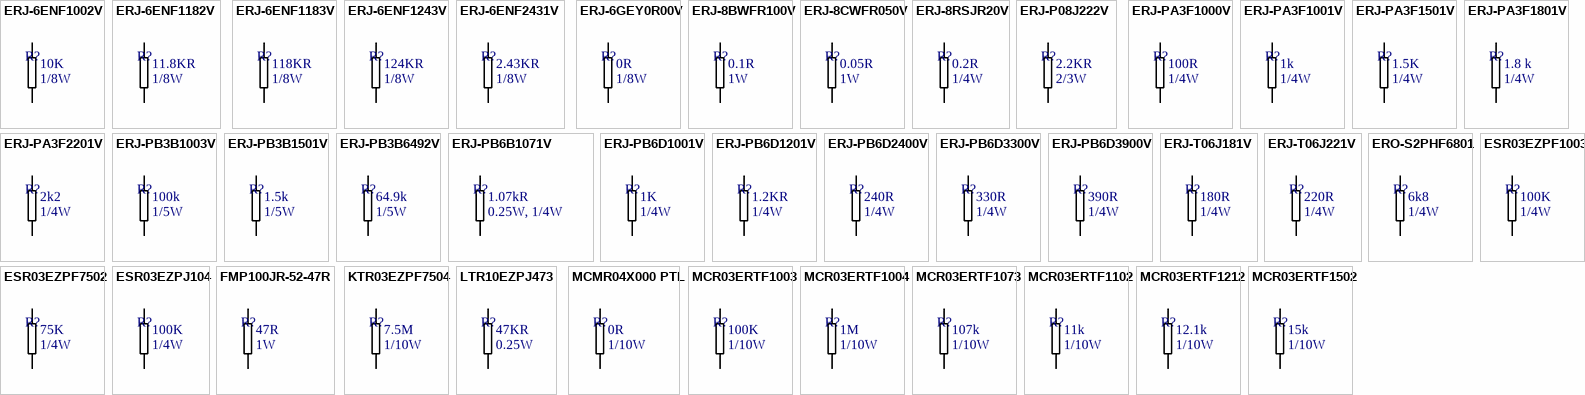
[diagram p2: symbols ERJ-6ENF1002V to MCR03ERTF1502]

## ERJ-6ENF1002V
designator R?  value 10K  Power: 1/8W  (hidden comment: ERJ-6ENF1002V)
RES 10.0K OHM 1/8W 1% 0805 SMD; Manufacturer: Panasonic - ECG; Mount Type: SMD; Tolerance: 1%; Supplier 1: Mouser; Supplier 2: Arrow; Supplier 3: Digi-Key; Supplier 4: Farnell; Supplier 5: Newark; Supplier Part Number 1: 667-ERJ-6ENF1002V; Supplier Part Number 2: 3985874S1681230N1386; Supplier Part Number 3: P10.0KCDKR-ND; Supplier Part Number 4: 2069605; Supplier Part Number 5: 64R5370
footprint R0805_HD (Chip Resistor, Body 2.0x1.3mm, IPC High Density)
footprint R0805_MD (Chip Resistor, Body 2.0x1.3mm, IPC Medium Density)
pins: 1, 2

## ERJ-6ENF1182V
designator R?  value 11.8KR  Power: 1/8W  (hidden comment: ERJ-6ENF1182V)
RES SMD 11.8K OHM 1% 1/8W 0805; Manufacturer: Panasonic Electronic Components; Mount Type: SMD; Tolerance: 1%; Supplier 1: Newark; Supplier Part Number 1: 53W4719; Supplier 2: Farnell; Supplier Part Number 2: 2303660RL; Supplier 3: Digi-Key; Supplier Part Number 3: P11.8KCCT-ND
footprint R0805_HD (Chip Resistor, Body 2.0x1.3mm, IPC High Density)
pins: 1, 2

## ERJ-6ENF1183V
designator R?  value 118KR  Power: 1/8W  (hidden comment: ERJ-6ENF1183V)
RES SMD 118K OHM 1% 1/8W 0805; Manufacturer: Panasonic Electronic Components; Mount Type: SMD; Tolerance: 1%; Supplier 1: Digi-Key; Supplier Part Number 1: P118KCDKR-ND; Supplier 2: Newark; Supplier Part Number 2: 90W3265
footprint R0805_MD (Chip Resistor, Body 2.0x1.3mm, IPC Medium Density)
pins: 1, 2

## ERJ-6ENF1243V
designator R?  value 124KR  Power: 1/8W  (hidden comment: ERJ-6ENF1243V)
RES SMD 124K OHM 1% 1/8W 0805; Manufacturer: Panasonic Electronic Components; Mount Type: SMD; Tolerance: 1%; Supplier 1: Newark; Supplier Part Number 1: 85Y8997; Supplier 2: Digi-Key; Supplier Part Number 2: P124KCDKR-ND
footprint C0805_HD (Chip Capacitor, Body 2.0x1.3mm, IPC High Density)
pins: 1, 2

## ERJ-6ENF2431V
designator R?  value 2.43KR  Power: 1/8W  (hidden comment: ERJ-6ENF2431V)
RES SMD 2.43K OHM 1% 1/8W 0805; Manufacturer: Panasonic Electronic Components; Mount Type: SMD; Tolerance: 1%; Supplier 1: Digi-Key; Supplier Part Number 1: P2.43KCDKR-ND; Supplier 2: Farnell; Supplier Part Number 2: 1652975
footprint R0805_HD (Chip Resistor, Body 2.0x1.3mm, IPC High Density)
pins: 1, 2

## ERJ-6GEY0R00V
designator R?  value 0R  Power: 1/8W  (hidden comment: ERJ-6GEY0R00V)
RES SMD 0.0 OHM JUMPER 1/8W 0805; Manufacturer: Panasonic Electronic Components; Mount Type: SMD; Supplier 1: Digi-Key; Supplier Part Number 1: P0.0ATR-ND
footprint R0805_MD (Chip Resistor, Body 2.0x1.3mm, IPC Medium Density)
pins: 1, 2

## ERJ-8BWFR100V
designator R?  value 0.1R  Power: 1W  (hidden comment: ERJ-8BWFR100V)
SMD 0.1 OHM 1% 1W 1206; Manufacturer: Panasonic Electronic Components; Mount Type: SMD; Tolerance: 1%; Supplier 1: Allied; Supplier Part Number 1: 70266165; Supplier 2: Newark; Supplier Part Number 2: 08N2429; Supplier 3: Digi-Key; Supplier Part Number 3: P.10AUCT-ND
footprint R1206_MD (Chip Resistor, Body 3.2x1.6mm, IPC Medium Density)
pins: 1, 2

## ERJ-8CWFR050V
designator R?  value 0.05R  Power: 1W  (hidden comment: ERJ-8CWFR050V)
RES SMD 0.05 OHM 1% 1W 1206; Manufacturer: Panasonic Electronic Components; Mount Type: SMD; Tolerance: 1%; Supplier 1: Farnell; Supplier Part Number 1: 2253991; Supplier 2: Digi-Key; Supplier Part Number 2: P0.05BVCT-ND
footprint R1206_MD (Chip Resistor, Body 3.2x1.6mm, IPC Medium Density)
pins: 1, 2

## ERJ-8RSJR20V
designator R?  value 0.2R  Power: 1/4W  (hidden comment: ERJ-8RSJR20V)
RES 0.2 OHM 1/4W 5% 1206 SMD; Manufacturer: Panasonic Electronic Components; Mount Type: SMD; Tolerance: 5%; Supplier 1: Digi-Key; Supplier 2: Mouser; Supplier 3: Newark; Supplier Part Number 1: P.20PCT-ND; Supplier Part Number 2: 667-ERJ-8RSJR20V; Supplier Part Number 3: 52W1139
footprint R1206_MD (Chip Resistor, Body 3.2x1.6mm, IPC Medium Density)
pins: 1, 2

## ERJ-P08J222V
designator R?  value 2.2KR  Power: 2/3W  (hidden comment: ERJ-P08J222V)
RES SMD 2.2K OHM 5% 2/3W 1206; Manufacturer: Panasonic Electronic Components; Mount Type: SMD; Tolerance: 5%; Supplier 1: Digi-Key; Supplier Part Number 1: P2.2KALCT-ND; Supplier 2: Newark; Supplier Part Number 2: 50W5794
footprint R1206_MD (Chip Resistor, Body 3.2x1.6mm, IPC Medium Density)
pins: 1, 2

## ERJ-PA3F1000V
designator R?  value 100R  Power: 1/4W  (hidden comment: ERJ-PA3F1000V)
RES SMD 100 OHM 1% 1/4W 0603; Manufacturer: Panasonic Electronic Components; Mount Type: SMD; Tolerance: 1%; Supplier 1: Digi-Key; Supplier Part Number 1: P100BYCT-ND; Supplier 2: Newark; Supplier Part Number 2: 84X4396
footprint R0603_MD (Chip Resistor, Body 1.6x0.8mm, IPC Medium Density)
pins: 1, 2

## ERJ-PA3F1001V
designator R?  value 1k  Power: 1/4W  (hidden comment: ERJ-PA3F1001V)
RES SMD 1K OHM 1% 1/4W 0603; Manufacturer: Panasonic Electronic Components; Mount Type: SMD; Tolerance: 1%; Supplier 1: Digi-Key; Supplier Part Number 1: P1.0KBYCT-ND
footprint R0603_HD (Chip Resistor, Body 1.6x0.8mm, IPC High Density)
pins: 1, 2

## ERJ-PA3F1501V
designator R?  value 1.5K  Power: 1/4W  (hidden comment: ERJ-PA3F1501V)
RES SMD 1.5K OHM 1% 1/4W 0603; Manufacturer: Panasonic Electronic Components; Mount Type: SMD; Tolerance: 1%; Supplier 1: Digi-Key; Supplier Part Number 1: P1.5KBYCT-ND
footprint R0603_HD (Chip Resistor, Body 1.6x0.8mm, IPC High Density)
pins: 1, 2

## ERJ-PA3F1801V
designator R?  value 1.8 k  Power: 1/4W  (hidden comment: ERJ-PA3F1801V)
RES SMD 1.8K OHM 1% 1/4W 0603; Manufacturer: Panasonic Electronic Components; Mount Type: SMD; Tolerance: 1%; Supplier 1: Digi-Key; Supplier Part Number 1: P1.8KBYCT-ND
footprint R0603_HD (Chip Resistor, Body 1.6x0.8mm, IPC High Density)
pins: 1, 2

## ERJ-PA3F2201V
designator R?  value 2k2  Power: 1/4W  (hidden comment: ERJ-PA3F2201V)
RES SMD 2.2K OHM 1% 1/4W 0603; Manufacturer: Panasonic Electronic Components; Mount Type: SMD; Tolerance: 1%; Supplier 1: Digi-Key; Supplier Part Number 1: P2.2KBYCT-ND
footprint R0603_MD (Chip Resistor, Body 1.6x0.8mm, IPC Medium Density)
pins: 1, 2

## ERJ-PB3B1003V
designator R?  value 100k  Power: 1/5W  (hidden comment: ERJ-PB3B1003V)
RES SMD 100K OHM 0.1% 1/5W 0603; Manufacturer: Panasonic Electronic Components; Mount Type: SMD; Tolerance: 0.1%; Supplier 1: Digi-Key; Supplier Part Number 1: P20200CT-ND
footprint R0603_MD (Chip Resistor, Body 1.6x0.8mm, IPC Medium Density)
pins: 1, 2

## ERJ-PB3B1501V
designator R?  value 1.5k  Power: 1/5W  (hidden comment: ERJ-PB3B1501V)
RES SMD 1.5K OHM 0.1% 1/5W 0603; Manufacturer: Panasonic Electronic Components; Mount Type: SMD; Tolerance: 0.1%; Supplier 1: Digi-Key; Supplier Part Number 1: P19990CT-ND
footprint R0603_MD (Chip Resistor, Body 1.6x0.8mm, IPC Medium Density)
pins: 1, 2

## ERJ-PB3B6492V
designator R?  value 64.9k  Power: 1/5W  (hidden comment: ERJ-PB3B6492V)
RES SMD 64.9K OHM 0.1% 1/5W 0603; Manufacturer: Panasonic Electronic Components; Mount Type: SMD; Tolerance: 0.1%; Supplier 1: Digi-Key; Supplier Part Number 1: P20179CT-ND
footprint R0603_MD (Chip Resistor, Body 1.6x0.8mm, IPC Medium Density)
pins: 1, 2

## ERJ-PB6B1071V
designator R?  value 1.07kR  Power: 0.25W, 1/4W  (hidden comment: ERJ-PB6B1071V)
RES SMD 1.07K OHM 0.1% 1/4W 0805; Manufacturer: Panasonic Electronic Components; Mount Type: SMD; Tolerance: 0.1%; Supplier 1: Digi-Key; Supplier Part Number 1: P20597CT-ND; Supplier 2: Digi-Key; Supplier Part Number 2: P20597DKR-ND; Supplier 3: Mouser; Supplier Part Number 3: Anonymous Daily Limit Reached
footprint R0805_MD (Chip Resistor, Body 2.0x1.3mm, IPC Medium Density)
pins: 1, 2

## ERJ-PB6D1001V
designator R?  value 1K  Power: 1/4W  (hidden comment: ERJ-PB6D1001V)
RES SMD 1K OHM 0.5% 1/4W 0805; Manufacturer: Panasonic Electronic Components; Mount Type: SMD; Tolerance: 0.5%; Supplier 1: Digi-Key; Supplier Part Number 1: P21019CT-ND
footprint R0805_MD (Chip Resistor, Body 2.0x1.3mm, IPC Medium Density)
pins: 1, 2

## ERJ-PB6D1201V
designator R?  value 1.2KR  Power: 1/4W  (hidden comment: ERJ-PB6D1201V)
RES SMD 1.2K OHM 0.5% 1/4W 0805; Manufacturer: Panasonic Electronic Components; Mount Type: SMD; Tolerance: 0.5%; Supplier 1: Digi-Key; Supplier Part Number 1: P21027CT-ND
footprint R0805_MD (Chip Resistor, Body 2.0x1.3mm, IPC Medium Density)
pins: 1, 2

## ERJ-PB6D2400V
designator R?  value 240R  Power: 1/4W  (hidden comment: ERJ-PB6D2400V)
RES SMD 240 OHM 0.5% 1/4W 0805; Manufacturer: Panasonic Electronic Components; Mount Type: SMD; Tolerance: 0.5%; Supplier 1: Arrow; Supplier 2: Digi-Key; Supplier Part Number 1: CMQpls--rDqUJW5etnI2Ef6Sk5DOtT91eUaGZR8iTcY; Supplier Part Number 2: P20946CT-ND
footprint R0805_MD (Chip Resistor, Body 2.0x1.3mm, IPC Medium Density)
pins: 1, 2

## ERJ-PB6D3300V
designator R?  value 330R  Power: 1/4W  (hidden comment: ERJ-PB6D3300V)
RES SMD 330 OHM 0.5% 1/4W 0805; Manufacturer: Panasonic Electronic Components; Mount Type: SMD; Tolerance: 0.5%; Supplier 1: Digi-Key; Supplier Part Number 1: P20962CT-ND
footprint R0805_MD (Chip Resistor, Body 2.0x1.3mm, IPC Medium Density)
pins: 1, 2

## ERJ-PB6D3900V
designator R?  value 390R  Power: 1/4W  (hidden comment: ERJ-PB6D3900V)
RES SMD 390 OHM 0.5% 1/4W 0805; Manufacturer: Panasonic Electronic Components; Mount Type: SMD; Tolerance: 0.5%; Supplier 1: Digi-Key; Supplier 2: Digi-Key; Supplier Part Number 2: P20971DKR-ND
footprint R0805_MD (Chip Resistor, Body 2.0x1.3mm, IPC Medium Density)
footprint R0805_HD (Chip Resistor, Body 2.0x1.3mm, IPC High Density)
pins: 1, 2

## ERJ-T06J181V
designator R?  value 180R  Power: 1/4W  (hidden comment: ERJ-T06J181V)
RES SMD 180 OHM 5% 1/4W 0805; Manufacturer: Panasonic Electronic Components; Mount Type: SMD; Tolerance: 5%; Supplier 1: Digi-Key; Supplier Part Number 1: ERJ-T06J181V-ND; Manufacturer Part Number: ERJ-T06J181V
footprint R0805_MD (Chip Resistor, Body 2.0x1.3mm, IPC Medium Density)
pins: 1, 2

## ERJ-T06J221V
designator R?  value 220R  Power: 1/4W  (hidden comment: ERJ-T06J221V)
RES SMD 220 OHM 5% 1/4W 0805; Manufacturer: Panasonic Electronic Components; Mount Type: SMD; Tolerance: 5%; Manufacturer Part Number: ERJ-T06J221V; Supplier 1: Digi-Key; Supplier Part Number 1: ERJ-T06J221V-ND
footprint R0805_MD (Chip Resistor, Body 2.0x1.3mm, IPC Medium Density)
pins: 1, 2

## ERO-S2PHF6801
designator R?  value 6k8  Power: 1/4W  (hidden comment: ERO-S2PHF6801)
RES 6.8K OHM 1/4W 1% AXIAL; Manufacturer: Panasonic Electronic Components; Mount Type: PTH; Tolerance: 1%; Supplier 1: Digi-Key; Supplier Part Number 1: P6.80KCACT-ND; Supplier 2: Mouser; Supplier Part Number 2: 667-ERO-S2PHF6801
footprint RES_AXIAL_0.4
pins: 1, 2

## ESR03EZPF1003
designator R?  value 100K  Power: 1/4W  (hidden comment: ESR03EZPF1003)
RES 100K OHM 1/4W 1% 0603 SMD; Manufacturer: Rohm Semiconductor; Mount Type: SMD; Tolerance: 1%; Supplier 1: Digi-Key; Supplier Part Number 1: RHM100KADCT-ND
footprint R0603_MD (Chip Resistor, Body 1.6x0.8mm, IPC Medium Density)
pins: 1, 2

## ESR03EZPF7502
designator R?  value 75K  Power: 1/4W  (hidden comment: ESR03EZPF7502)
RES 75K OHM 1/4W 1% 0603 SMD; Manufacturer: Rohm Semiconductor; Mount Type: SMD; Tolerance: 1%; Supplier 1: Digi-Key; Supplier Part Number 1: RHM75.0KADCT-ND
footprint R0603_MD (Chip Resistor, Body 1.6x0.8mm, IPC Medium Density)
pins: 1, 2

## ESR03EZPJ104
designator R?  value 100K  Power: 1/4W  (hidden comment: ESR03EZPJ104)
RES 100K OHM 1/4W 5% 0603 SMD; Manufacturer: Rohm Semiconductor; Mount Type: SMD; Tolerance: 5%; Supplier 1: Digi-Key; Supplier Part Number 1: RHM100KDCT-ND
footprint R0603_MD (Chip Resistor, Body 1.6x0.8mm, IPC Medium Density)
pins: 1, 2

## FMP100JR-52-47R
designator R?  value 47R  Power: 1W  (hidden comment: FMP100JR-52-47R)
RES 47 OHM 1W 5% AXIAL; Manufacturer: Yageo; Mount Type: PTH; Tolerance: 5%; Supplier 1: Digi-Key; Supplier 2: Mouser; Supplier Part Number 1: 47WCT-ND; Supplier Part Number 2: 603-FMP100JR-52-47R
footprint RES_AXIAL_0.1_VERT
pins: 1, 2

## KTR03EZPF7504
designator R?  value 7.5M  Power: 1/10W  (hidden comment: KTR03EZPF7504)
RES SMD 7.5M OHM 1% 1/10W 0603; Manufacturer: Rohm Semiconductor; Mount Type: SMD; Tolerance: 1%; Supplier 1: Avnet; Supplier Part Number 1: KTR03EZPF7504; Supplier 2: Digi-Key; Supplier Part Number 2: RHM7.5MAYCT-ND
footprint R0603_MD (Chip Resistor, Body 1.6x0.8mm, IPC Medium Density)
pins: 1, 2

## LTR10EZPJ473
designator R?  value 47KR  Power: 0.25W  (hidden comment: LTR10EZPJ473)
RES SMD 47K OHM 1/4W 0805 WIDE; Manufacturer: Rohm Semiconductor; Tolerance: 5%; Mount Type: SMD; Supplier 1: Digi-Key; Supplier Part Number 1: RHM47KBUCT-ND
footprint R0805_HD (Chip Resistor, Body 2.0x1.3mm, IPC High Density)
pins: 1, 2

## MCMR04X000 PTL
designator R?  value 0R  Power: 1/10W  (hidden comment: MCMR04X000 PTL)
RES 0 OHM 0402 SMD; Manufacturer: MULTICOMP PRO; Tolerance: 1%; Mount Type: SMD
footprint R0402_MD (Chip Resistor Body 1.0x0.5mm, IPC Medium Density)
pins: 1, 2

## MCR03ERTF1003
designator R?  value 100K  Power: 1/10W  (hidden comment: MCR03ERTF1003)
RES 100K OHM 1/10W 1% 0603 SMD; Manufacturer: Rohm Semiconductor; Mount Type: SMD; Tolerance: 1%; Supplier 1: Digi-Key; Supplier Part Number 1: RHM100KCFCT-ND
footprint R0603_MD (Chip Resistor, Body 1.6x0.8mm, IPC Medium Density)
pins: 1, 2

## MCR03ERTF1004
designator R?  value 1M  Power: 1/10W  (hidden comment: MCR03ERTF1004)
RES 1M OHM 1/10W 5% 0603; Manufacturer: Rohm Semiconductor; Mount Type: SMD; Tolerance: 5%; Supplier 1: Digi-Key; Supplier Part Number 1: RHM1.00MCFCT-ND
footprint R0603_MD (Chip Resistor, Body 1.6x0.8mm, IPC Medium Density)
pins: 1, 2

## MCR03ERTF1073
designator R?  value 107k  Power: 1/10W  (hidden comment: MCR03ERTF1073)
RES 107K OHM 1/10W 1% 0603 SMD; Manufacturer: Rohm Semiconductor; Mount Type: SMD; Tolerance: 1%; Supplier 1: Digi-Key; Supplier Part Number 1: RHM107KCFCT-ND
footprint R0603_MD (Chip Resistor, Body 1.6x0.8mm, IPC Medium Density)
pins: 1, 2

## MCR03ERTF1102
designator R?  value 11k  Power: 1/10W  (hidden comment: MCR03ERTF1102)
RES SMD 11K OHM 1% 1/10W 0603; Manufacturer: Rohm Semiconductor; Mount Type: SMD; Tolerance: 1%; Supplier 1: Mouser; Supplier 2: Newark; Supplier 3: Digi-Key; Supplier 4: Farnell; Supplier Part Number 1: N/A; Supplier Part Number 2: 65T8315; Supplier Part Number 3: RHM11KCFCT-ND; Supplier Part Number 4: 2130941
footprint R0603_MD (Chip Resistor, Body 1.6x0.8mm, IPC Medium Density)
pins: 1, 2

## MCR03ERTF1212
designator R?  value 12.1k  Power: 1/10W  (hidden comment: MCR03ERTF1212)
RES SMD 12.1K OHM 1% 1/10W 0603; Manufacturer: Rohm Semiconductor; Mount Type: SMD; Tolerance: 1%; Supplier 1: Digi-Key; Supplier Part Number 1: RHM12.1KCFCT-ND
footprint R0603_MD (Chip Resistor, Body 1.6x0.8mm, IPC Medium Density)
pins: 1, 2

## MCR03ERTF1502
designator R?  value 15k  Power: 1/10W  (hidden comment: MCR03ERTF1502)
RES 15K OHM 1/10W 1% 0603 SMD; Manufacturer: Rohm Semiconductor; Mount Type: SMD; Tolerance: 1%; Supplier 1: Digi-Key; Supplier Part Number 1: RHM15.0KCFCT-ND
footprint R0603_MD (Chip Resistor, Body 1.6x0.8mm, IPC Medium Density)
pins: 1, 2

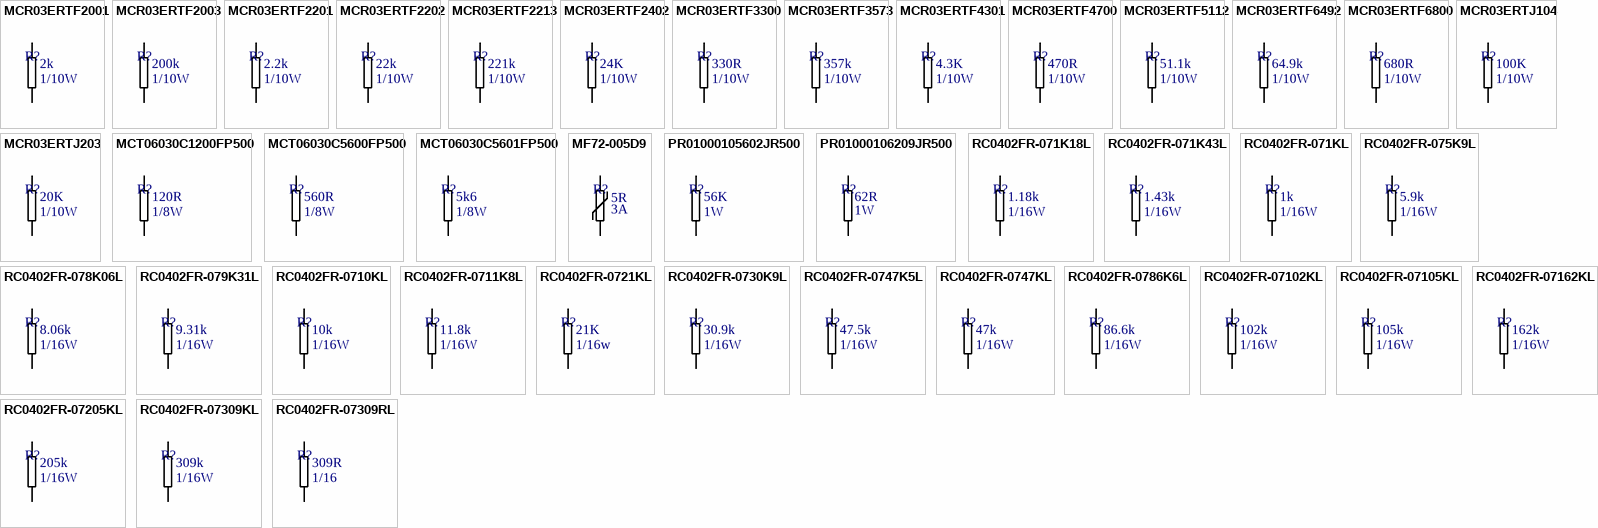
[diagram p3: symbols MCR03ERTF2001 to RC0402FR-07309RL]